# EAGLE library part ADR43X (library Radicon)
ADR430/ADR431/ADR433/ADR434/ADR435/ADR439 Ultralow Noise XFET® Voltage References with Current Sink and Source Capability
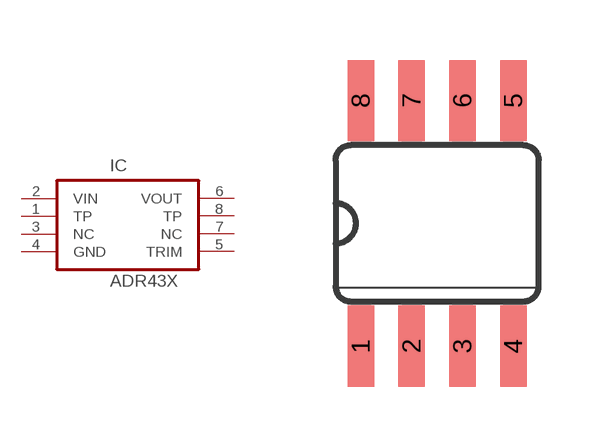
[diagram p26: symbol with the pads of SO08; footprint SO08]

Designator prefix IC

## ADR43X  [SO08]
1  TP  pas
2  VIN  pas
3  NC  pas
4  GND  pas
5  TRIM  pas
6  VOUT  pas
7  NC  pas
8  TP  pas

## Footprint SO08 (pad centres in mm)
Small Outline package 8 150 mil
smd 0.66 x 2.032: 1 -1.905,-3.073; 2 -0.635,-3.073; 3 0.635,-3.073; 4 1.905,-3.073; 5 1.905,3.073; 6 0.635,3.073; 7 -0.635,3.073; 8 -1.905,3.073